# EAGLE library part HEADER6X1 (library CONNECTORS)
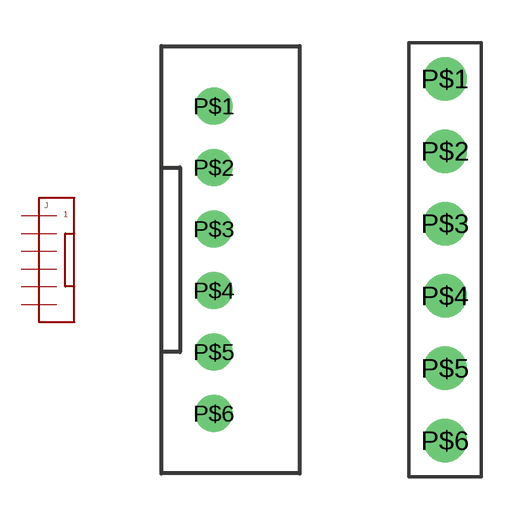
[diagram p2: symbol with the pads of JST_PH_6X1; footprints JST_PH_6X1, HEADER6X1_.1]

Designator prefix J

## HEADER6X1JST_PH_PTH (DIGIKEY: 455-1708-ND)  [JST_PH_6X1]
P$1  P$1
P$2  P$2
P$3  P$3
P$4  P$4
P$5  P$5
P$6  P$6

## HEADER6X1.1_PTH  [HEADER6X1_.1]
Pads as for JST_PH_6X1

## Footprint JST_PH_6X1 (pad centres in mm)
drill 0.7 pad 1.016: P$1 0,5; P$2 0,3; P$3 0,1; P$4 0,-1; P$5 0,-3; P$6 0,-5

## Footprint HEADER6X1_.1 (pad centres in mm)
drill 1.016: P$1 0,6.35; P$2 0,3.81; P$3 0,1.27; P$4 0,-1.27; P$5 0,-3.81; P$6 0,-6.35